# EAGLE library part LTC2901-* (library linear-tech-3)
Programmable Quad Supply Monitor with Adjustable Reset and Watchdog Timers
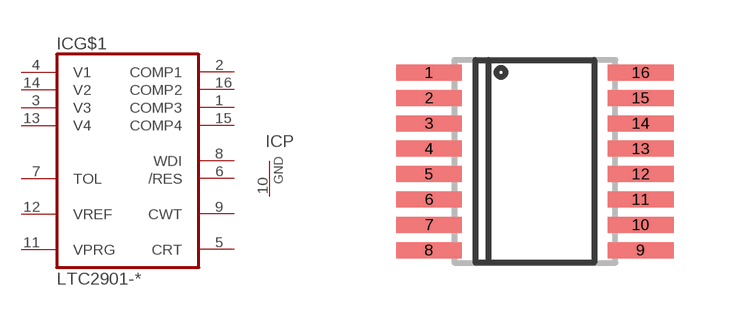
[diagram p35: symbol with the pads of SSOP16; footprint SSOP16]

Designator prefix IC; gates P=PWRN-G G$1=LTC2901-3/4

## LTC2901-3CGN, LTC2901-3IGN, LTC2901-4CGN, LTC2901-4IGN  [SSOP16]
1  G$1:COMP3  oc
2  G$1:COMP1  oc
3  G$1:V3  pas
4  G$1:V1  pas
5  G$1:CRT  pas
6  G$1:/RES  oc
7  G$1:TOL  pas
8  G$1:WDI  in
9  G$1:CWT  pas
10  P:GND  pwr
11  G$1:VPRG  pas
12  G$1:VREF  pas
13  G$1:V4  pas
14  G$1:V2  pas
15  G$1:COMP4  oc
16  G$1:COMP2  oc

## Footprint SSOP16 (pad centres in mm)
smd 1.65 x 0.4: 1 -2.646,2.223; 2 -2.646,1.587; 3 -2.646,0.953; 4 -2.646,0.318; 5 -2.646,-0.318; 6 -2.646,-0.953; 7 -2.646,-1.587; 8 -2.646,-2.223; 9 2.646,-2.223; 10 2.646,-1.587; 11 2.646,-0.953; 12 2.646,-0.318; 13 2.646,0.318; 14 2.646,0.953; 15 2.646,1.587; 16 2.646,2.223